# EAGLE library part FIREFLY (library Firefly)
The Zoul is a core module developed by Zolertia to target most IoT applications, providing a flexible and affordable module solution to integrate to most existing products and solutions, or ease the prototyping and production of new products in a short time.
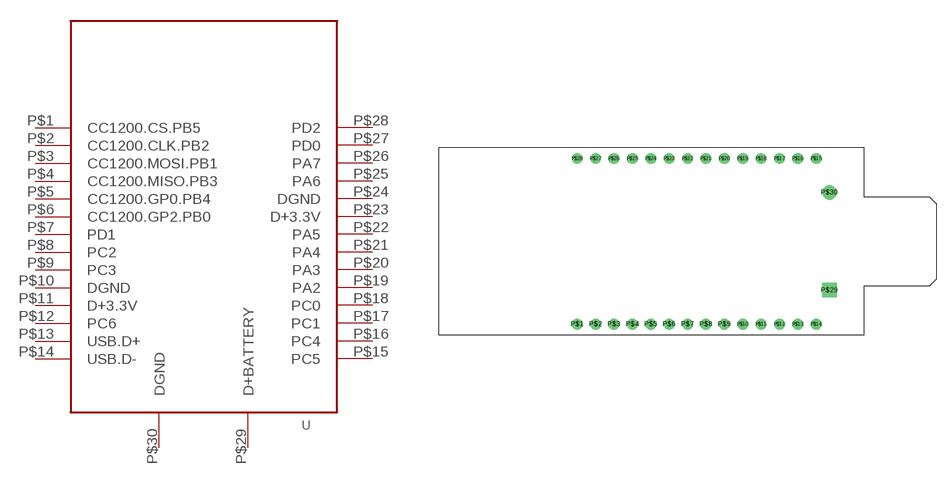
[diagram p0: symbol with the pads of FIREFLY_PCB; footprint FIREFLY_PCB]

Designator prefix -

## FIREFLY  [FIREFLY_PCB]
P$1  CC1200.CS.PB5
P$2  CC1200.CLK.PB2
P$3  CC1200.MOSI.PB1
P$4  CC1200.MISO.PB3
P$5  CC1200.GP0.PB4
P$6  CC1200.GP2.PB0
P$7  PD1
P$8  PC2
P$9  PC3
P$10  DGND
P$11  D+3.3V
P$12  PC6
P$13  USB.D+
P$14  USB.D-
P$15  PC5
P$16  PC4
P$17  PC1
P$18  PC0
P$19  PA2
P$20  PA3
P$21  PA4
P$22  PA5
P$23  D+3.3V
P$24  DGND
P$25  PA6
P$26  PA7
P$27  PD0
P$28  PD2
P$29  D+BATTERY
P$30  DGND

## Footprint FIREFLY_PCB (pad centres in mm)
drill 0.9 pad 1.5: P$1 0,0; P$2 2.54,0; P$3 5.08,0; P$4 7.62,0; P$5 10.16,0; P$6 12.7,0; P$7 15.24,0; P$8 17.78,0; P$9 20.32,0; P$10 22.86,0; P$11 25.4,0; P$12 27.94,0; P$13 30.48,0; P$14 33.02,0; P$15 33.02,22.86; P$16 30.48,22.86; P$17 27.94,22.86; P$18 25.4,22.86; P$19 22.86,22.86; P$20 20.32,22.86; P$21 17.78,22.86; P$22 15.24,22.86; P$23 12.7,22.86; P$24 10.16,22.86; P$25 7.62,22.86; P$26 5.08,22.86; P$27 2.54,22.86; P$28 0,22.86
drill 1.2 pad 2 square: P$29 34.822,4.678
drill 1.2 pad 2: P$30 34.822,18.178